# Altium footprint library PcbLib.PcbLib: 145 footprints (part 2 of 10)
Each footprint in its own frame and in the unit in brackets; x right, y up, seen from the top. Pads: shape width x height; smd on the part's side, far side on the other; paste and mask are expansions set on the pad; w line width, h text height; cw(c..) or ccw(c..) is an arc to the next point about the centre after c.
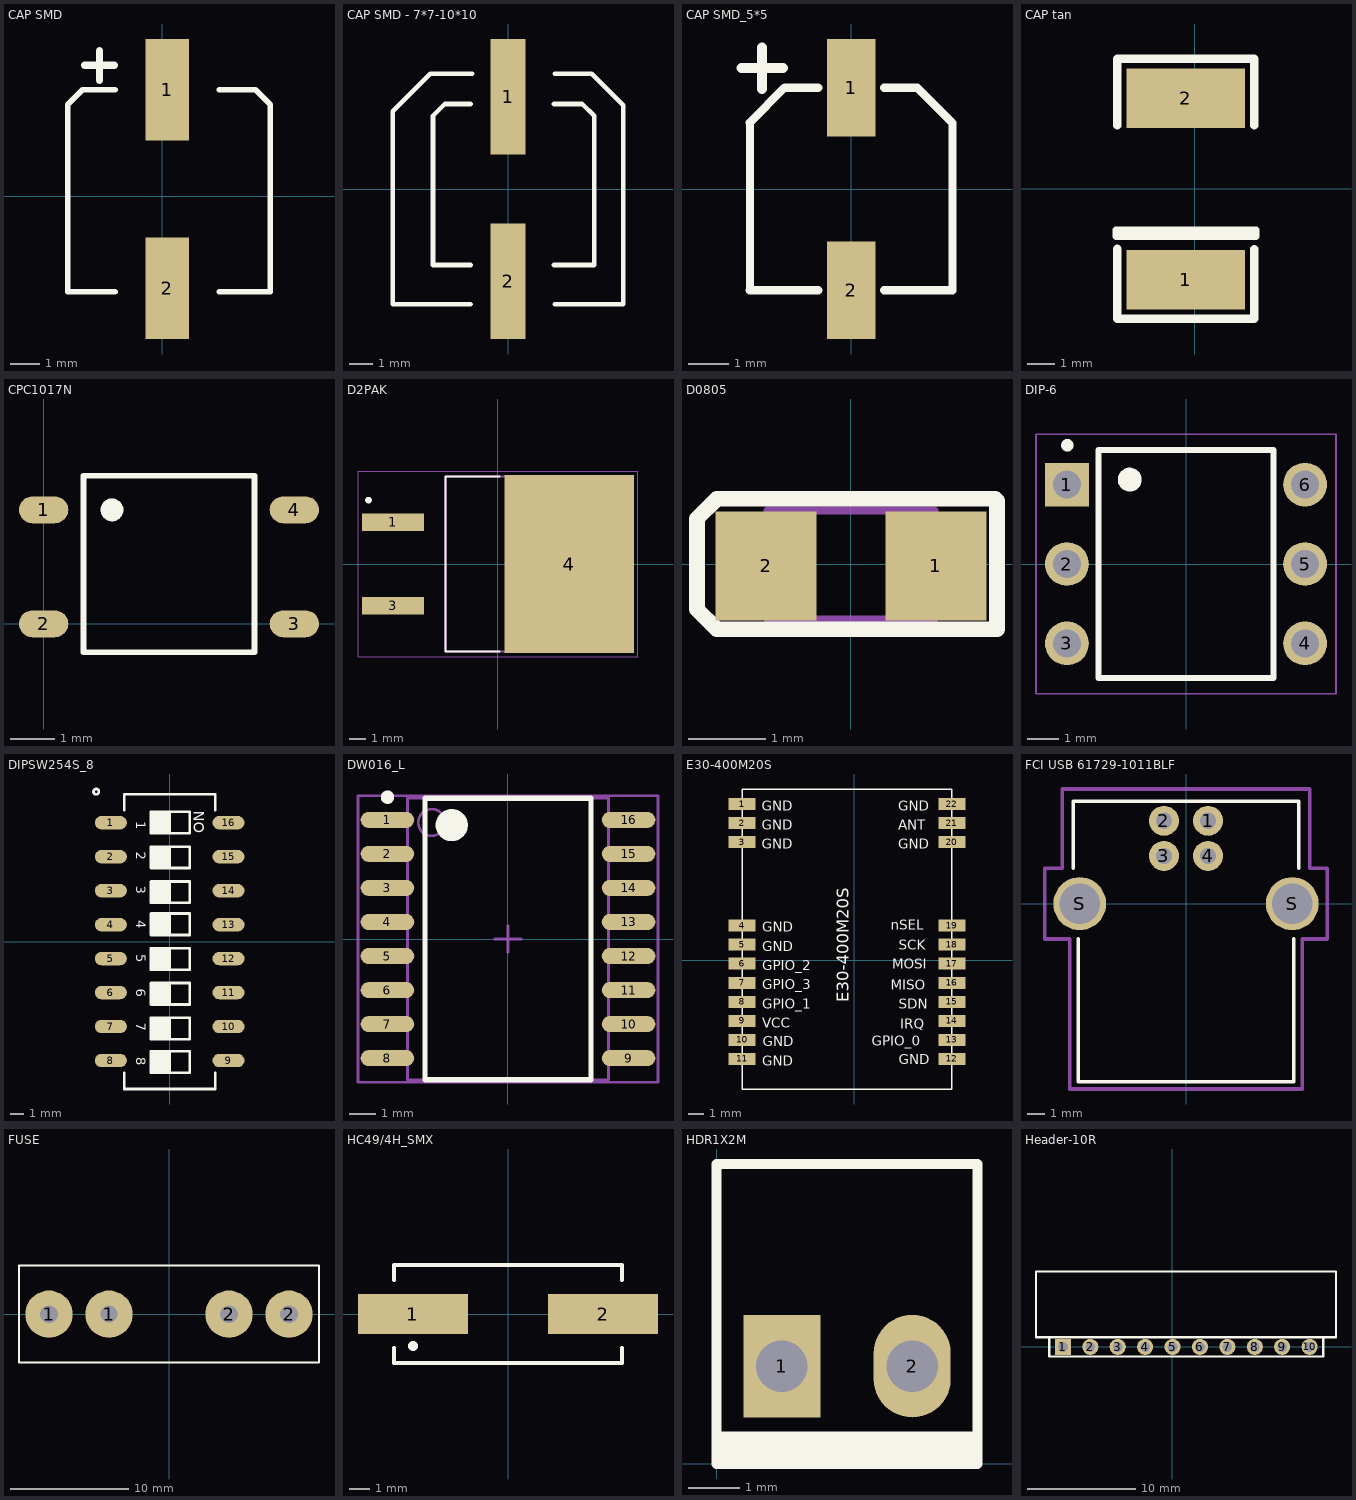
[diagram p1: the footprints below, top view; thin cyan lines are the x and y axes]

## CAP SMD [mm]
pads (2):
  rect 1.5x3.5 smd: 1(0.178,3.683) 2(0.178,-3.175)
Top Overlay:
  lines w0.2: -1.622,-3.294 -3.251,-3.294 -3.251,3.175 -2.743,3.683 -1.622,3.683 ; 1.978,-3.294 3.734,-3.294 3.734,3.175 3.226,3.683 1.978,3.683
  lines w0.254: -2.667,4.521 -1.651,4.521 ; -2.159,4.013 -2.159,5.029
3D body "EEEFN1C221XP.STEP": height 7.7, standoff 0, extent -3.046,-3.49 3.554,3.81

## CAP SMD - 7*7-10*10 [mm]
pads (2):
  rect 1.5x5 smd: 1(0,4) 2(0,-4)
Top Overlay:
  lines w0.2: -1.622,-3.294 -3.251,-3.294 -3.251,3.175 -2.743,3.683 -1.622,3.683 ; 1.978,-3.294 3.734,-3.294 3.734,3.175 3.226,3.683 1.978,3.683
  lines w0.203: -1.622,-5 -5,-5 -5,3.369 -3.369,5 -1.549,5 ; 2.032,-5 5,-5 5,3.623 3.623,5 2.032,5
3D body "EEEFTH101XAP.STEP": height 7.7, standoff 0, extent -3.046,-3.523 3.554,3.777

## CAP SMD_5*5 [mm]
pads (2):
  rect 1.2x2.4 smd: 1(0,2.5) 2(0,-2.5)
Top Overlay:
  lines w0.2: -2.5,-2.5 -2.5,1.64 ; 2.5,-2.5 2.5,1.627
  lines w0.203: -2.5,-2.5 -0.813,-2.5 ; -2.5,1.64 -1.64,2.5 -0.813,2.5 ; 0.813,-2.5 2.5,-2.5 ; 0.813,2.5 1.627,2.5 1.651,2.476 2.5,1.627
  lines w0.254: -2.705,2.984 -1.689,2.984 ; -2.197,2.476 -2.197,3.492
3D body "EEEFN1A221UL.STEP": height 5.8, standoff 0, extent -3.298,-3.681 3.302,3.619

## CAP tan [mm] "ABSM-1574"
height 1.1
pads (2):
  rect 4.4x2.2 smd: 1(-0.327,-3.377) 2(-0.327,3.36)
Top Overlay:
  lines w0.254: -2.921,-1.778 2.286,-1.778 2.286,-1.524 -2.921,-1.524 -2.921,-1.778
  lines w0.305: -2.867,-2.228 -2.867,-4.826 2.213,-4.826 2.213,-2.24 ; -2.867,2.344 -2.867,4.826 2.213,4.826 2.213,2.344
3D body "TPSD477K006R0200.STEP": height 3.1, standoff 0, extent -2.658,-3.523 1.642,3.777

## CPC1017N [mm]
pads (4):
  oval 1.1x0.6 smd: 1(0,2.54) 2(0,0) 3(5.588,0) 4(5.588,2.54)
Top Overlay:
  circle w0.254: c1.524,2.54 r0.127
  lines w0.127: 0.889,-0.635 4.699,-0.635 4.699,3.302 0.889,3.302 0.889,-0.635

## D2PAK [mm]
pads (3):
  rect 3.78x1.06 smd: 1(-6.4,2.54) 3(-6.4,-2.54)
  rect 7.88x10.84 smd paste-6: 4(4.35,0)
Top Overlay:
  circle w0.2: c-7.9,3.9 r0.1
  lines w0.127: 0.097,-5.34 -3.208,-5.34 -3.208,5.34 0.097,5.34
Top Paste:
  region: 7.14,-3.83 1.56,-3.83 1.56,3.83 7.14,3.83
Mechanical 13:
  circle w0.2: c-7.9,3.9 r0.1
  lines w0.127: -3.208,-5.34 -3.208,5.34 6.453,5.34 6.453,-5.34 -3.208,-5.34
Mechanical 15:
  lines w0.05: -8.54,-5.67 8.54,-5.67 8.54,5.67 -8.54,5.67 -8.54,-5.67
3D body "IRF9Z34SPBF.STEP": height 2.16, standoff -2.92, extent -7.357,-5.22 8.074,5.22

## D0805 [mm]
pads (2):
  rect 1.3x1.4 smd: 1(1.092,-0.025) 2(-1.092,-0.025)
Top Overlay:
  lines w0.2: -1.981,-0.584 -1.727,-0.838 1.88,-0.838 1.88,0.813 1.854,0.838 -1.727,0.838 -1.981,0.584 -1.981,-0.584
Mechanical 13:
  lines w0.1: -1.075,-0.711 -1.075,0.689 1.075,0.689 1.075,-0.711 -1.075,-0.711
3D body: height 0.7, standoff 0, extent -1.075,-0.711 1.075,0.689

## DIP-6 [mm]
pads (6):
  rect 1.4x1.4 hole 0.9: 1(-3.81,2.54)
  round 1.4 hole 0.9: 2(-3.81,0) 3(-3.81,-2.54) 4(3.81,-2.54) 5(3.81,0) 6(3.81,2.54)
Top Overlay:
  circle w0.2: c-3.8,3.8 r0.1
  circle w0.2: c-1.8,2.7 r0.283
  lines w0.2: -1.8,2.7 -2,2.6 ; -2,2.6 -1.7,2.5 -1.6,2.7 -1.8,2.9 -2,2.6 ; -2.8,-3.65 -2.8,3.65 2.8,3.65 2.8,-3.65 -2.8,-3.65
Mechanical 15:
  lines w0.05: -4.8,-4.15 -4.8,4.15 4.8,4.15 4.8,-4.15 -4.8,-4.15
3D body "CNY17F-4.STEP": height 5.46, standoff -3.81, extent -4.854,-4.445 4.953,4.445

## DIPSW254S_8 [mm] "SWITCH DIP 8POS, THD, 2.54mm,"
height 6.5
pads (16):
  oval 2.4x1 smd: 1(-4.4,8.89) 2(-4.4,6.35) 3(-4.4,3.81) 4(-4.4,1.27) 5(-4.4,-1.27) 6(-4.4,-3.81) 7(-4.4,-6.35) 8(-4.4,-8.89) 9(4.4,-8.89) 10(4.4,-6.35) 11(4.4,-3.81) 12(4.4,-1.27) 13(4.4,1.27) 14(4.4,3.81) 15(4.4,6.35) 16(4.4,8.89)
Top Overlay:
  circle w0.2: c-5.5,11.21 r0.2
  rectangle: -1.4,8.1 0.1,9.7
  rectangle: -1.4,5.5 0.1,7.1
  rectangle: -1.4,2.9 0.1,4.5
  rectangle: -1.4,0.5 0.1,2.1
  rectangle: -1.4,-2.1 0.1,-0.5
  rectangle: -1.4,-4.7 0.1,-3.1
  rectangle: -1.4,-7.3 0.1,-5.7
  rectangle: -1.4,-9.8 0.1,-8.2
  lines w0.2: -3.39,-9.82 -3.39,-11.02 3.41,-11.02 3.41,-9.82 ; -3.39,9.82 -3.39,11.02 3.41,11.02 3.41,9.82 ; -1.4,-9.8 -1.4,-8.2 1.5,-8.2 1.5,-9.8 -1.4,-9.8 ; -1.4,-7.3 -1.4,-5.7 1.5,-5.7 1.5,-7.3 -1.4,-7.3 ; -1.4,-4.7 -1.4,-3.1 1.5,-3.1 1.5,-4.7 -1.4,-4.7 ; -1.4,-2.1 -1.4,-0.5 1.5,-0.5 1.5,-2.1 -1.4,-2.1 ; -1.4,0.5 -1.4,2.1 1.5,2.1 1.5,0.5 -1.4,0.5 ; -1.4,2.9 -1.4,4.5 1.5,4.5 1.5,2.9 -1.4,2.9 ; -1.4,5.5 -1.4,7.1 1.5,7.1 1.5,5.5 -1.4,5.5 ; -1.4,8.1 -1.4,9.7 1.5,9.7 1.5,8.1 -1.4,8.1
  text "ON" at 2.6,8.1 h0.8
  text "1" at -2.51,8.991 h0.7
  text "2" at -2.51,6.727 h0.7
  text "3" at -2.51,4.167 h0.7
  text "4" at -2.51,1.606 h0.7
  text "5" at -2.51,-0.954 h0.7
  text "6" at -2.51,-3.515 h0.7
  text "7" at -2.51,-6.075 h0.7
  text "8" at -2.51,-8.636 h0.7
3D body "User Library-DIP SW 8P.step": height 4.15, standoff 0, extent -4.95,-10.895 4.95,10.895

## DW016_L [mm] "16-Pin Plastic Small Outline Integrated Circuit 1.27 mm Pitch, IPC High Density"
height 2.65
pads (16):
  oval 2x0.6 smd: 1(-4.5,4.445) 2(-4.5,3.175) 3(-4.5,1.905) 4(-4.5,0.635) 5(-4.5,-0.635) 6(-4.5,-1.905) 7(-4.5,-3.175) 8(-4.5,-4.445) 9(4.5,-4.445) 10(4.5,-3.175) 11(4.5,-1.905) 12(4.5,-0.635) 13(4.5,0.635) 14(4.5,1.905) 15(4.5,3.175) 16(4.5,4.445)
Top Overlay:
  circle w0.6: c-2.1,4.25 r0.3
  circle w0.25: c-4.5,5.295 r0.125
  lines w0.2: -3.1,-5.25 3.1,-5.25 3.1,5.25 -3.1,5.25 -3.1,-5.25
Mechanical 13:
  circle w0.1: c-2.85,4.35 r0.5
  lines w0.1: -3.75,-5.25 3.75,-5.25 3.75,5.25 -3.75,5.25 -3.75,-5.25
Mechanical 15:
  lines w0.1: -0.5,0 0.5,0 ; 0,-0.5 0,0.5 ; -5.6,-5.35 5.6,-5.35 5.6,5.35 -5.6,5.35 -5.6,-5.35
3D body: height 2.65, standoff 0, extent -3.75,-5.25 3.75,5.25

## E30-400M20S [mm]
pads (22):
  rect 1.8x0.8 smd: 1(-7.493,10.414) 2(-7.493,9.144) 3(-7.493,7.874) 4(-7.493,2.304) 5(-7.493,1.034) 6(-7.493,-0.236) 7(-7.493,-1.506) 8(-7.493,-2.776) 9(-7.493,-4.046) 10(-7.493,-5.316) 11(-7.493,-6.586) 12(6.507,-6.586) 13(6.507,-5.316) 14(6.507,-4.046) 15(6.507,-2.776) 16(6.507,-1.506) 17(6.507,-0.236) 18(6.507,1.034) 19(6.507,2.304) 20(6.507,7.874) 21(6.507,9.144) 22(6.507,10.414)
Top Overlay:
  lines w0.1: -7.493,-8.586 -7.493,11.414 6.507,11.414 6.507,-8.586 -7.493,-8.586
  text "E30-400M20S" at -0.381,-2.794 h0.8
  text "nSEL" at 2.413,2.032 h0.65
  text "SCK" at 2.951,0.685 h0.65
  text "MOSI" at 2.518,-0.585 h0.65
  text "MISO" at 2.41,-1.982 h0.65
  text "SDN" at 2.951,-3.252 h0.65
  text "IRQ" at 3.059,-4.572 h0.65
  text "GPIO_0" at 1.143,-5.715 h0.65
  text "GND" at 2.951,-6.935 h0.65
  text "GND" at 2.935,7.418 h0.65
  text "ANT" at 2.935,8.697 h0.65
  text "GND" at 2.935,9.976 h0.65
  text "GND" at -6.17,9.976 h0.65
  text "GND" at -6.17,8.697 h0.65
  text "GND" at -6.17,7.418 h0.65
  text "GND" at -6.14,-7.036 h0.65
  text "GND" at -6.12,-5.726 h0.65
  text "VCC" at -6.14,-4.508 h0.65
  text "GPIO_1" at -6.14,-3.229 h0.65
  text "GPIO_3" at -6.14,-1.95 h0.65
  text "GPIO_2" at -6.14,-0.672 h0.65
  text "GND" at -6.14,0.607 h0.65
  text "GND" at -6.14,1.886 h0.65
3D body: height 2, standoff 1, extent -7.366,-8.509 6.35,11.303

## FCI USB 61729-1011BLF [mm]
height 11
pads (6):
  round 1.7 hole 0.92: 1(1.25,4.7) 2(-1.25,4.7) 3(-1.25,2.71) 4(1.25,2.71)
  round 3 hole 2.3: S(-6.02,0) S(6.02,0)
Top Overlay:
  lines w0.2: -6.4,2 -6.4,5.8 6.4,5.8 6.4,2 ; -6.1,-2 -6.1,-10.1 6.1,-10.1 6.1,-2
Mechanical 15:
  lines w0.2: -8,-2 -6.6,-2 -6.6,-10.5 0,-10.5 6.6,-10.5 6.6,-2 8,-2 8,2 7,2 7,6.5 0,6.5 -7,6.5 -7,2 -8,2 -8,-2
3D body "FCI 61729-1011BLF.STEP": height 11, standoff -2.8, extent -6.56,-10.175 6.56,5.765

## FUSE [mm]
pads (4):
  round 4 hole 1.5: 1(-10.16,0) 2(5.08,0) 2(10.16,0)
  round 4 hole 1.45: 1(-5.08,0)
Top Overlay:
  lines w0.2: -12.7,-4.089 -12.7,4.115 12.7,4.115 12.7,-4.089 -12.7,-4.089

## HC49/4H_SMX [mm]
pads (2):
  rect 5.5x2 smd: 1(-4.75,0) 2(4.75,0)
Top Overlay:
  circle w0.25: c-4.75,-1.6 r0.125
  lines w0.2: -5.7,-1.7 -5.7,-2.45 5.7,-2.45 5.7,-1.7 ; -5.7,1.7 -5.7,2.45 5.7,2.45 5.7,1.7

## HDR1X2M [mm] "Connector; Header; 2 Position"
height 14.8
pads (2):
  rect 1.5x2 hole 1: 1(1.27,1.905)
  oval 1.5x2 hole 1: 2(3.81,1.905)
Top Overlay:
  rectangle: 0,0 5.08,0.635
  lines w0.2: 0,5.8 0,0 5.08,0 5.08,5.8 ; 0,5.842 5.08,5.842

## Header-10R [mm]
pads (10):
  rect 1.5x1.5 hole 0.9: 1(-10.136,0)
  round 1.5 hole 0.9: 2(-7.596,0) 3(-5.056,0) 4(-2.516,0) 5(0.024,0) 6(2.564,0) 7(5.104,0) 8(7.644,0) 9(10.184,0) 10(12.724,0)
Top Overlay:
  lines w0.2: -12.63,7 15.17,7 ; 13.97,0.9 -11.406,0.9 ; -11.406,0.9 13.994,0.9 13.994,-0.9 -11.406,-0.9 -11.406,0.9
  lines w0.203: -12.63,2.124 -12.63,7 -12.63,0.9 -11.406,0.9 ; 13.67,7 15.17,7 15.17,0.9 13.994,0.9